# EAGLE library part MCP2562-E_SN (library OUTech)
CAN Transceiver Source: Datasheet <http://docs-emea.rs-online.com/webdocs/12a8/0900766b812a88df.pdf>
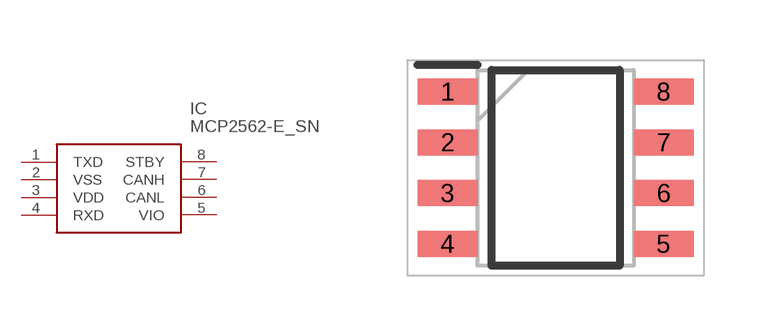
[diagram p3: symbol with the pads of SOIC127P600X175-8N; footprint SOIC127P600X175-8N]

Designator prefix IC

## MCP2562-E_SN (ALLIED_NUMBER: 70415107; ALLIED_PRICE-STOCK: http://www.alliedelec.com/microchip-technology-inc-mcp2562-e-sn/70415107/; DESCRIPTION: CAN Transceiver 1Mbps 5V 125degC SOIC8 CAN Transceiver 1MBps IEC 61000-4-2 Standby-Mode 8pins SOIC; HEIGHT: 1.75mm; MANUFACTURER_NAME: Microchip; MANUFACTURER_PART_NUMBER: MCP2562-E/SN; MOUSER_PART_NUMBER: 579-MCP2562-E/SN; MOUSER_PRICE-STOCK: https://www.mouser.com/Search/Refine.aspx?Keyword=579-MCP2562-E%2FSN; RS_PART_NUMBER: 7990228P; RS_PRICE-STOCK: http://uk.rs-online.com/web/p/products/7990228P)  [SOIC127P600X175-8N]
1  TXD
2  VSS
3  VDD
4  RXD
5  VIO
6  CANL
7  CANH
8  STBY

## Footprint SOIC127P600X175-8N (pad centres in mm)
8-Lead(SN) SOIC
smd 1.5 x 0.65: 1 -2.7,1.905; 2 -2.7,0.635; 3 -2.7,-0.635; 4 -2.7,-1.905; 5 2.7,-1.905; 6 2.7,-0.635; 7 2.7,0.635; 8 2.7,1.905